# Altium schematic symbol library AndreiLib.SchLib: 25 symbols
Pins are listed as number, name and electrical type; pins without a type are passive.

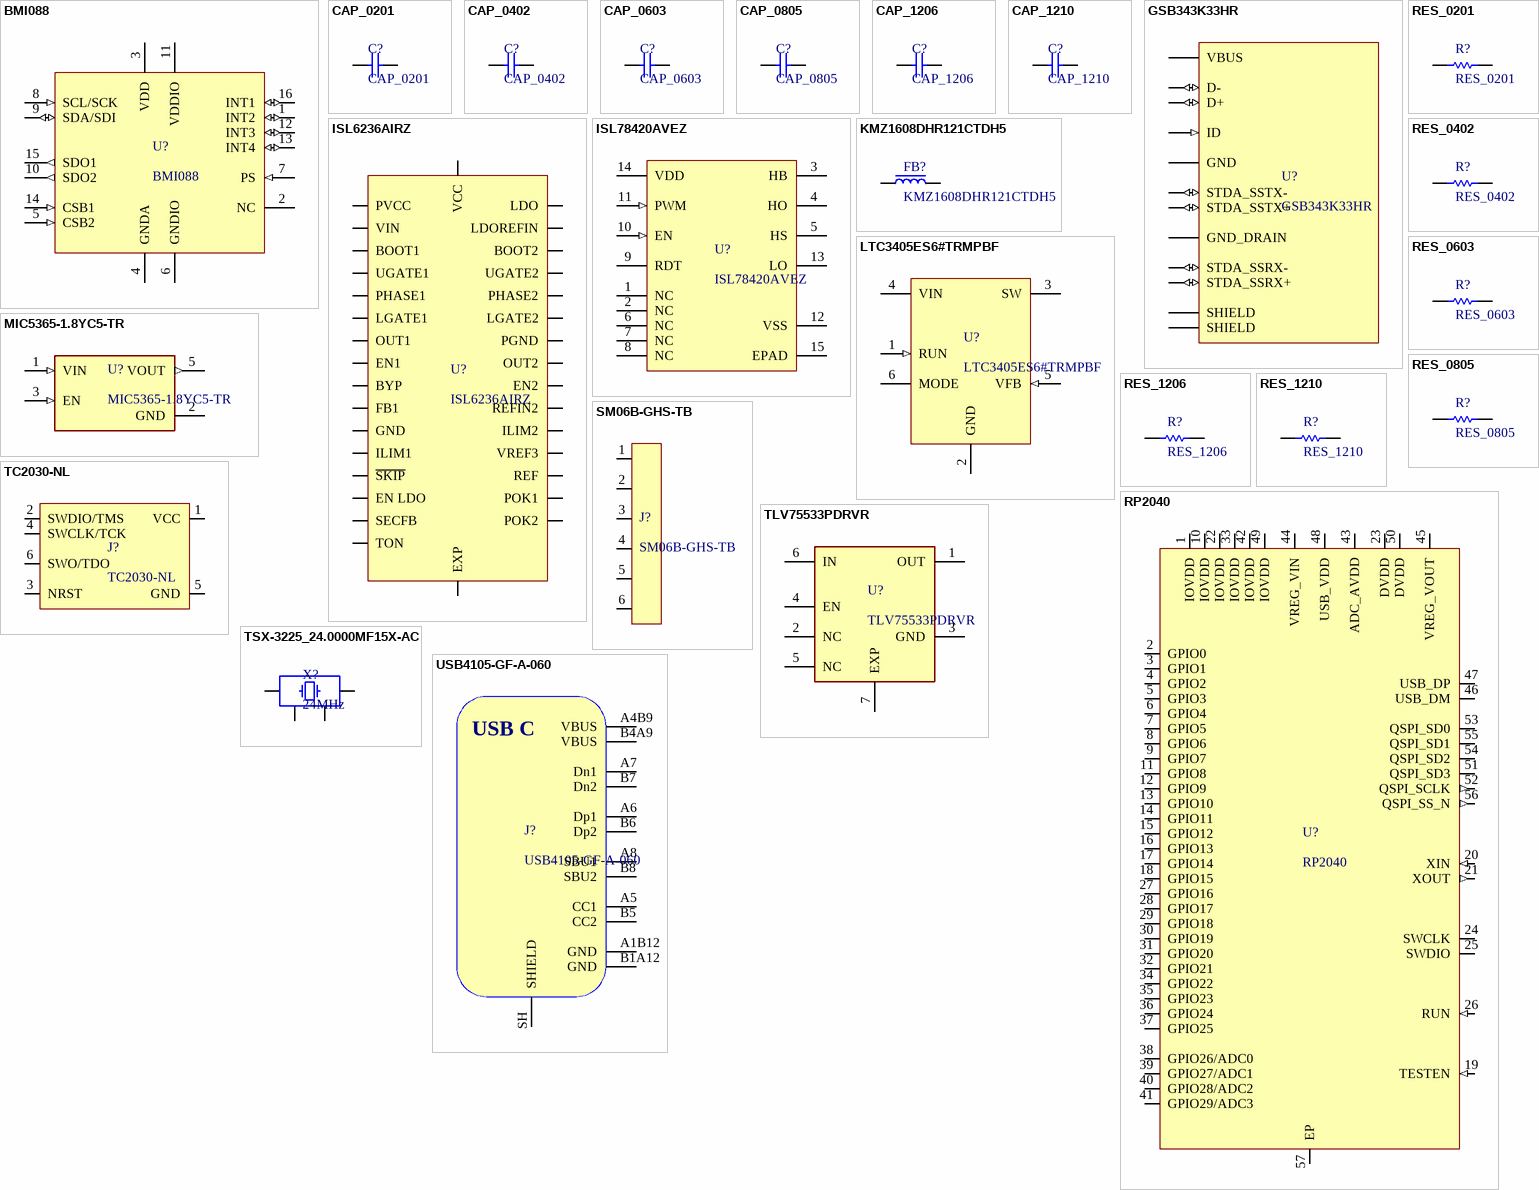
[diagram p0: symbols BMI088 to USB4105-GF-A-060]

## BMI088
designator U?
Inertial Measurement Unit IMU 6-Axis LGA; Manufacturer: Bosch; MAnufacturer Part Number: BMI088; LCSC: *
footprint BMI088
pins: 1 INT2 (io), 2 NC, 3 VDD (power), 4 GNDA (power), 5 CSB2 (in), 6 GNDIO (power), 7 PS (in), 8 SCL/SCK (in), 9 SDA/SDI (io), 10 SDO2 (out), 11 VDDIO (power), 12 INT3 (io), 13 INT4 (io), 14 CSB1 (in), 15 SDO1 (out), 16 INT1 (io)

## CAP_0201
designator C?
Capacitor SMD 0201 Generic; Manufacturer: *; Manufacturer Part Number: *; Tolerance: *; Package Size: *; LCSC Part Number: *
footprint CAP_0201 (Chip Capacitor, 2-Leads, Body 0.60x0.30mm, IPC Medium Density)
pins: 1, 2

## CAP_0402
designator C?
Capacitor SMD 0402 Generic; Manufacturer: *; Manufacturer Part Number: *; Tolerance: *; Package Size: *; LCSC Part Number: *
footprint CAP_0402 (Chip Capacitor, 2-Leads, Body 1.00x0.50mm, IPC Medium Density)
pins: 1, 2

## CAP_0603
designator C?
Capacitor SMD 0603 Generic; Manufacturer: *; Manufacturer Part Number: *; Tolerance: *; Package Size: *; LCSC Part Number: *
footprint CAP_0603 (Chip Capacitor, 2-Leads, Body 1.60x0.80mm, IPC Medium Density)
pins: 1, 2

## CAP_0805
designator C?
Capacitor SMD 0805 Generic; Manufacturer: *; Manufacturer Part Number: *; Tolerance: *; Package Size: *; LCSC Part Number: *
footprint CAP_0805 (Chip Capacitor, 2-Leads, Body 2.00x1.25mm, IPC Medium Density)
pins: 1, 2

## CAP_1206
designator C?
Capacitor SMD 1206 Generic; Manufacturer: *; Manufacturer Part Number: *; Tolerance: *; Package Size: *; LCSC Part Number: *
footprint CAP_1206 (Chip Capacitor, 2-Leads, Body 3.20x1.60mm, IPC Medium Density)
pins: 1, 2

## CAP_1210
designator C?
Capacitor SMD 1210 Generic; Manufacturer: *; Manufacturer Part Number: *; Tolerance: *; Package Size: *; LCSC Part Number: *
footprint CAP_1210 (Chip Capacitor, 2-Leads, Body 3.20x2.50mm, IPC Medium Density)
pins: 1, 2

## GSB343K33HR
designator U?
Micro USB 3.2, Type Micro B, Receptacle, Right Angle Surface Mount, 10 Pins; Manufacturer: *; Manufacturer Part Number: *; LCSC Part Number: *
pins: 1 VBUS (power), 2 D- (io), 3 D+ (io), 4 ID (in), 5 GND (power), 6 STDA_SSTX- (io), 7 STDA_SSTX+ (io), 8 GND_DRAIN (power), 9 STDA_SSRX- (io), 10 STDA_SSRX+ (io), 11 SHIELD, 12 SHIELD

## ISL6236AIRZ
designator U?
Soft Sw PWM Cntrlr 2-OUT Power Supply Controller 200KHz/300KHz/400KHz/500KHz 32-Pin QFN EP; Manufacturer: Renesas; Manufacturer Lifecycle Status: OBSOLETE; Efficiency: 97%; Frequency: 500kHz; Max Supply Voltage: 25V; Max Junction Temperature (Tj): 150°C; Max Output current: 3.3A; Min Input Voltage: 5.5V; Min Supply Voltage: 4.5V; Min Switching Frequency: 25kHz; Nominal Supply Voltage: 12V; Nominal Output Voltage: 1.05V; Number of Circuits: 1; Number of Outputs: 2; Output Current: 20A; Pitch: 500µm; Switching Frequency: 37kHz; Topology: Buck, Push-Pull; Supplier: RS; Supplier Part Number: 2627252; Manufacturer Part Number: ISL6236AIRZ; RoHS: Compliant; Category: Voltage Regulators - Switching; Stock: 44; Pricing: 1=55.55, 10=50.27, 25=47.72, 120=41.51, 300=39.42 (DKK); Case/Package: QFN; Country of Origin: Taiwan; Export Control Classification Number (ECCN) Code: EAR99; Part Family: ISL6236A; Height: 900µm; Height - Seated (Max): 1mm; Harmonized Tariff Schedule (HTS) Code: 8542.39.00.60; Introduction Date: 2017-11-10; Lead Free: Lead Free; Length: 5mm; Lifecycle Status: Obsolete; LTB Date: 2025-09-04; LTD Date: 2026-03-04; Max Operating Temperature: 100°C; Max Switching Frequency: 500kHz; Min Operating Temperature: -40°C; MSL: 3; Mounting Technology: Surface Mount; Pins: 32; Number of Terminals: 32; Output Voltage: 5.5V; Radiation Hardening: No; REACH SVHC: Unaffected; Temperature Grade: Industrial; Terminal Pitch: 500µm; Width: 5mm; ComponentLink1URL: https://datasheet.octopart.com:443/ISL6236AIRZ-Renesas-datasheet-149187364.pdf?src-supplier=Integrated+Device+Technology; ComponentLink1Description: https://datasheet.octopart.com:443/ISL6236AIRZ-Renesas-datasheet-149187364.pdf?src-supplier=Integrated+Device+Technology; ComponentLink2URL: https://datasheet.octopart.com:443/ISL6236AIRZ-Renesas-datasheet-179182849.pdf?src-supplier=Integrated+Device+Technology; ComponentLink2Description: https://datasheet.octopart.com:443/ISL6236AIRZ-Renesas-datasheet-179182849.pdf?src-supplier=Integrated+Device+Technology; ComponentLink3URL: https://datasheet.octopart.com:443/ISL6236AIRZ-Renesas-datasheet-14388266.pdf?src-supplier=IHS; ComponentLink3Description: https://datasheet.octopart.com:443/ISL6236AIRZ-Renesas-datasheet-14388266.pdf?src-supplier=IHS; ComponentLink4URL: https://datasheet.octopart.com:443/ISL6236AIRZ-Renesas-datasheet-138160199.pdf?src-supplier=Future+Electronics; ComponentLink4Description: https://datasheet.octopart.com:443/ISL6236AIRZ-Renesas-datasheet-138160199.pdf?src-supplier=Future+Electronics; ComponentLink5URL: https://datasheet.octopart.com:443/ISL6236AIRZ-Intersil-datasheet-158443858.pdf?src-supplier=Augswan; ComponentLink5Description: https://datasheet.octopart.com:443/ISL6236AIRZ-Intersil-datasheet-158443858.pdf?src-supplier=Augswan; ComponentLink6URL: http://sigma.octopart.com:80/reach_statement/Renesas-company-45.pdf?src-supplier=Compliance+Statements; ComponentLink6Description: http://sigma.octopart.com:80/reach_statement/Renesas-company-45.pdf?src-supplier=Compliance+Statements; ComponentLink7URL: http://sigma.octopart.com:80/conflict_mineral_statement/Renesas-company-44.pdf?src-supplier=Compliance+Statements; ComponentLink7Description: http://sigma.octopart.com:80/conflict_mineral_statement/Renesas-company-44.pdf?src-supplier=Compliance+Statements; LCSC Part Number: *
footprint L32.5x5B
pins: 1 REF, 2 TON, 3 VCC, 4 EN LDO, 5 VREF3, 6 VIN, 7 LDO, 8 LDOREFIN, 9 BYP, 10 OUT1, 11 FB1, 12 ILIM1, 13 POK1, 14 EN1, 15 UGATE1, 16 PHASE1, 17 BOOT1, 18 LGATE1, 19 PVCC, 20 SECFB, 21 GND, 22 PGND, 23 LGATE2, 24 BOOT2, 25 PHASE2, 26 UGATE2, 27 EN2, 28 POK2, 29 ~{SKIP}, 30 OUT2, 31 ILIM2, 32 REFIN2, 33 EXP

## ISL78420AVEZ
designator U?
Renesas Electronics 14Pin gate driver module, 100VPower, HTSSOP 16encapsulation; Manufacturer Lifecycle Status: ACTIVE; Channel Type: Synchronous; Fall Time: 10ns; Max Output current: 2A; Max Power Dissipation: 3.5W; Max Supply Current: 4mA; Max Supply Voltage: 14V; Min Supply Voltage: 8V; Nominal Supply Voltage (DC): 12V; Number of Channels: 1; Number of Drivers: 2; Output Type: Voltage; Pitch: 700µm; Propagation Delay: 60ns; Supplier: Farnell; Supplier Part Number: ISL78420AVEZ; Manufacturer: Renesas; Manufacturer Part Number: ISL78420AVEZ; RoHS: Compliant; Category: Gate Drivers; Stock: 41; Pricing: 1=1, 10=26.15, 25=24.11, 50=23.06, 100=21.97, 250=20.92, 500=20.03 (EUR); Country of Origin: Malaysia; Export Control Classification Number (ECCN) Code: EAR99; Part Family: ISL78420; Height: 0m; Height - Seated (Max): 1.2mm; Harmonized Tariff Schedule (HTS) Code: 8540000000; Introduction Date: 2014-11-06; Length: 5mm; Lifecycle Status: Production; Max Operating Temperature: 125°C; Min Operating Temperature: -40°C; MSL: 3; Mounting Technology: Surface Mount; Number of Circuits: 1; Number of Outputs: 2; Pins: 14; Number of Terminals: 14; Radiation Hardening: No; Ratings: AEC-Q100; REACH SVHC: Unaffected; Terminal Pitch: 650µm; Width: 4.4mm; ComponentLink1URL: https://datasheet.octopart.com:443/ISL78420AVEZ-Renesas-datasheet-117116799.pdf?src-supplier=IHS; ComponentLink1Description: https://datasheet.octopart.com:443/ISL78420AVEZ-Renesas-datasheet-117116799.pdf?src-supplier=IHS; ComponentLink2URL: https://datasheet.octopart.com:443/ISL78420AVEZ-Renesas-datasheet-41199385.pdf?src-supplier=IHS; ComponentLink2Description: https://datasheet.octopart.com:443/ISL78420AVEZ-Renesas-datasheet-41199385.pdf?src-supplier=IHS; ComponentLink3URL: https://datasheet.octopart.com:443/ISL78420AVEZ-Renesas-datasheet-179183120.pdf?src-supplier=Integrated+Device+Technology; ComponentLink3Description: https://datasheet.octopart.com:443/ISL78420AVEZ-Renesas-datasheet-179183120.pdf?src-supplier=Integrated+Device+Technology; ComponentLink4URL: https://datasheet.octopart.com:443/ISL78420AVEZ-Renesas-datasheet-149187688.pdf?src-supplier=Integrated+Device+Technology; ComponentLink4Description: https://datasheet.octopart.com:443/ISL78420AVEZ-Renesas-datasheet-149187688.pdf?src-supplier=Integrated+Device+Technology; ComponentLink5URL: https://datasheet.octopart.com:443/ISL78420AVEZ-Intersil-datasheet-37096373.pdf?src-supplier=Newark; ComponentLink5Description: https://datasheet.octopart.com:443/ISL78420AVEZ-Intersil-datasheet-37096373.pdf?src-supplier=Newark; ComponentLink6URL: https://datasheet.octopart.com:443/ISL78420AVEZ-Intersil-datasheet-32868520.pdf?src-supplier=Intersil; ComponentLink6Description: https://datasheet.octopart.com:443/ISL78420AVEZ-Intersil-datasheet-32868520.pdf?src-supplier=Intersil; ComponentLink7URL: http://sigma.octopart.com:80/reach_statement/Renesas-company-45.pdf?src-supplier=Compliance+Statements; ComponentLink7Description: http://sigma.octopart.com:80/reach_statement/Renesas-company-45.pdf?src-supplier=Compliance+Statements; ComponentLink8URL: http://sigma.octopart.com:80/conflict_mineral_statement/Renesas-company-44.pdf?src-supplier=Compliance+Statements; ComponentLink8Description: http://sigma.octopart.com:80/conflict_mineral_statement/Renesas-company-44.pdf?src-supplier=Compliance+Statements; LCSC Part Number: *
footprint ISL78420AVEZ
pins: 1 NC, 2 NC, 3 HB (power), 4 HO, 5 HS, 6 NC, 7 NC, 8 NC, 9 RDT, 10 EN (in), 11 PWM (in), 12 VSS (power), 13 LO, 14 VDD (power), 15 EPAD

## KMZ1608DHR121CTDH5
designator FB?
Ferrite Beads 120MHz 0.3Ohm 25% 1608 AEC-Q200; Manufacturer: *; Manufacturer Part Number: *; LCSC Part Number: *
footprint KMZ1608DHR121CTDH5
pins: 1, 2

## LTC3405ES6#TRMPBF
designator U?
1.5MHz, 300mA Synchronous Step-Down Regulator in ThinSOT
footprint SOT-23-6 (SOT23, 6-Leads, Body 2.90x2.80mm, Pitch 0.95mm, IPC Medium Density)
pins: 1 RUN (in), 2 GND (power), 3 SW (power), 4 VIN (power), 5 VFB (in), 6 MODE

## MIC5365-1.8YC5-TR
designator U?
Linear Voltage Regulator IC Positive Fixed 1 Output 150mA SC-70-5; MF: Microchip; SnapEDA_Link: https://www.snapeda.com/parts/MIC5365-1.8YC5-TR/Microchip/view-part/?ref=snap; Package: SC-70-5 Microchip; Value: *; MP: MIC5365-1.8YC5-TR; Check_prices: https://www.snapeda.com/parts/MIC5365-1.8YC5-TR/Microchip/view-part/?ref=eda
footprint MIC5365-1.8YC5-TR
pins: 1 VIN (in), 2 GND (power), 3 EN (in), 5 VOUT (out)

## RES_0201
designator R?
Resistor SMD 0201 Generic; Manufacturer: *; Manufacturer Part Number: *; Tolerance: *; Package Size: *; LCSC Part Number: *
footprint RES_0201 (Chip Resistor, 2-Leads, Body 0.60x0.30mm, IPC Medium Density)
pins: 1, 2

## RES_0402
designator R?
Resistor SMD 0402 Generic; Manufacturer: *; Manufacturer Part Number: *; Tolerance: *; Package Size: *; LCSC Part Number: *
footprint RES_0402 (Chip Resistor, 2-Leads, Body 1.00x0.50mm, IPC Medium Density)
pins: 1, 2

## RES_0603
designator R?
Resistor SMD 0603 Generic; Manufacturer: *; Manufacturer Part Number: *; Tolerance: *; Package Size: *; LCSC Part Number: *
footprint RES_0603
pins: 1, 2

## RES_0805
designator R?
Resistor SMD 0805 Generic; Manufacturer: *; Manufacturer Part Number: *; Tolerance: *; Package Size: *; LCSC Part Number: *
footprint RES_0805 (Chip Resistor, 2-Leads, Body 2.00x1.25mm, IPC Medium Density)
pins: 1, 2

## RES_1206
designator R?
Resistor SMD 1206 Generic; Manufacturer: *; Manufacturer Part Number: *; Tolerance: *; Package Size: *; LCSC Part Number: *
footprint RES_1206 (Chip Resistor, 2-Leads, Body 3.10x1.60mm, IPC Medium Density)
pins: 1, 2

## RES_1210
designator R?
Resistor SMD 1210 Generic; Manufacturer: *; Manufacturer Part Number: *; Tolerance: *; Package Size: *; LCSC Part Number: *
footprint RES_1210 (Chip Resistor, 2-Leads, Body 3.10x2.60mm, IPC Medium Density)
pins: 1, 2

## RP2040
designator U?
Raspberry Pi RP2040 MCU
footprint QFN-56-EP
pins: 1 IOVDD (power), 2 GPIO0 (io), 3 GPIO1 (io), 4 GPIO2 (io), 5 GPIO3 (io), 6 GPIO4 (io), 7 GPIO5 (io), 8 GPIO6 (io), 9 GPIO7 (io), 10 IOVDD (power), 11 GPIO8 (io), 12 GPIO9 (io), 13 GPIO10 (io), 14 GPIO11 (io), 15 GPIO12 (io), 16 GPIO13 (io), 17 GPIO14 (io), 18 GPIO15 (io), 19 TESTEN (in), 20 XIN (in), 21 XOUT (out), 22 IOVDD (power), 23 DVDD (power), 24 SWCLK (io), 25 SWDIO (io), 26 RUN (in), 27 GPIO16 (io), 28 GPIO17 (io), 29 GPIO18 (io), 30 GPIO19 (io), 31 GPIO20 (io), 32 GPIO21 (io), 33 IOVDD (power), 34 GPIO22 (io), 35 GPIO23 (io), 36 GPIO24 (io), 37 GPIO25 (io), 38 GPIO26/ADC0 (io), 39 GPIO27/ADC1 (io), 40 GPIO28/ADC2 (io), 41 GPIO29/ADC3 (io), 42 IOVDD (power), 43 ADC_AVDD (power), 44 VREG_VIN (power), 45 VREG_VOUT (power), 46 USB_DM (io), 47 USB_DP (io), 48 USB_VDD (power), 49 IOVDD (power), 50 DVDD (power), 51 QSPI_SD3 (io), 52 QSPI_SCLK (out), 53 QSPI_SD0 (io), 54 QSPI_SD2 (io), 55 QSPI_SD1 (io), 56 QSPI_SS_N (out), 57 EP (power)

## SM06B-GHS-TB
designator J?
Header Connector 6 Position 1.25MM Pitch SMD Horizontal JST GH
pins: 1, 2, 3, 4, 5, 6

## TC2030-NL
designator J?
Tag-Connect No-Solder SWD Debug Connector (No Legs) DO NOT PLACE; Manufacturer Part Number: TC2030-NL-FP; Manufacturer: Tag-Connect; LCSC: *
footprint TC2030-NL-FP
pins: 1 VCC, 2 SWDIO/TMS, 3 NRST, 4 SWCLK/TCK, 5 GND, 6 SWO/TDO

## TLV75533PDRVR
designator U?
500mA high-PSRR low-IQ low-dropout voltage regulator with enable 6-WSON -40 to 125; Manufacturer: Texas Instruments; Manufacturer Lifecycle Status: ACTIVE; Accuracy: 1.5%; Dropout Voltage: 250mV; Max Junction Temperature (Tj): 125°C; Max Supply Voltage: 5.5V; Min Supply Voltage: 3.55V; Nominal Supply Current: 25µA; Number of Channels: 1; Output Voltage: 3.3V; Supplier: DigiKey; Supplier Part Number: 296-51807-6-ND; Manufacturer Part Number: TLV75533PDRVR; RoHS: Compliant; Category: LDO Voltage Regulators; Stock: 5358; Pricing: 1=0.45, 10=0.311, 25=0.2772, 100=0.24, 250=0.22232, 500=0.21166, 1000=0.20288 (USD); Height: 800µm; Length: 2mm; Lifecycle Status: Production; Max Operating Temperature: 125°C; Min Operating Temperature: -40°C; Number of Outputs: 1; Pins: 6; Output Current: 500mA; Schedule B: 8542390000; Thickness: 750µm; Width: 2mm; ComponentLink1URL: https://octopart.com:443/opatz8j6/c1?t=jz4KQYd-X30Q9oOq83RN8Q7LJxgnjgc-4qjjpnbq5ibPyNQ9C1qmgU9l-Mq4lcrjrxNSMc1fBezVCBvvAiMb2CiEwv4XU2kB3ULQci-AKl7rOna3sWz9khra6j3WMNF6umiBxhVnqs4fyYOWhNE2PFYe70JvyT66uIYe3PcBjJPV9rj2Op8s1nt1envjIjZVUY3LrhuEoL_oMCW_bmLoi1tQcpU6eGEV6lKc3ncBfJmEddXZsDRyU__fld6n-joR3AORBvJ_Vc3OVQhCrkfV5BDSB_Me-qjpyqejgDWvRq9frsyj1H2Z_N5iwNIFVTUaM6S0AsYGC3S5REzTpAfo67I7hxePwPhy6LENuZ1lk9DMUkgUFbrXIbVKEpYMLRYkCMjcSg&src-supplier=Texas+Instruments; ComponentLink1Description: https://octopart.com:443/opatz8j6/c1?t=jz4KQYd-X30Q9oOq83RN8Q7LJxgnjgc-4qjjpnbq5ibPyNQ9C1qmgU9l-Mq4lcrjrxNSMc1fBezVCBvvAiMb2CiEwv4XU2kB3ULQci-AKl7rOna3sWz9khra6j3WMNF6umiBxhVnqs4fyYOWhNE2PFYe70JvyT66uIYe3PcBjJPV9rj2Op8s1nt1envjIjZVUY3LrhuEoL_oMCW_bmLoi1tQcpU6eGEV6lKc3ncBfJmEddXZsDRyU__fld6n-joR3AORBvJ_Vc3OVQhCrkfV5BDSB_Me-qjpyqejgDWvRq9frsyj1H2Z_N5iwNIFVTUaM6S0AsYGC3S5REzTpAfo67I7hxePwPhy6LENuZ1lk9DMUkgUFbrXIbVKEpYMLRYkCMjcSg&src-supplier=Texas+Instruments; ComponentLink2URL: https://sigma.octopart.com:443/101810328/technical_drawing/Texas-Instruments-TLV75533PDRVR.pdf?src-supplier=Texas+Instruments; ComponentLink2Description: https://sigma.octopart.com:443/101810328/technical_drawing/Texas-Instruments-TLV75533PDRVR.pdf?src-supplier=Texas+Instruments; ComponentLink3URL: https://datasheet.octopart.com:443/TLV75533PDRVR-Texas-Instruments-datasheet-148775085.pdf?src-supplier=Upverter; ComponentLink3Description: https://datasheet.octopart.com:443/TLV75533PDRVR-Texas-Instruments-datasheet-148775085.pdf?src-supplier=Upverter; ComponentLink4URL: https://datasheet.octopart.com:443/TLV75533PDRVR-Texas-Instruments-datasheet-150455022.pdf?src-supplier=Augswan; ComponentLink4Description: https://datasheet.octopart.com:443/TLV75533PDRVR-Texas-Instruments-datasheet-150455022.pdf?src-supplier=Augswan; ComponentLink5URL: https://datasheet.octopart.com:443/TLV75533PDRVR-Texas-Instruments-datasheet-165804640.pdf?src-supplier=LCSC; ComponentLink5Description: https://datasheet.octopart.com:443/TLV75533PDRVR-Texas-Instruments-datasheet-165804640.pdf?src-supplier=LCSC; ComponentLink6URL: http://sigma.octopart.com:80/reach_statement/Texas-Instruments-company-64.pdf?src-supplier=Compliance+Statements; ComponentLink6Description: http://sigma.octopart.com:80/reach_statement/Texas-Instruments-company-64.pdf?src-supplier=Compliance+Statements; ComponentLink7URL: http://sigma.octopart.com:80/conflict_mineral_statement/Texas-Instruments-company-63.pdf?src-supplier=Compliance+Statements; ComponentLink7Description: http://sigma.octopart.com:80/conflict_mineral_statement/Texas-Instruments-company-63.pdf?src-supplier=Compliance+Statements; LCSC Part Number: *
footprint TLV75533PDRVR
pins: 1 OUT, 2 NC, 3 GND (power), 4 EN, 5 NC, 6 IN, 7 EXP (power)

## TSX-3225_24.0000MF15X-AC
designator X?, comment 24MHz
Crystal SMD 24MHz 10PPM 7pF 3225; Manufacturer: Epson; Manufacturer Part Number: TSX-3225_24.0000MF15X-AC; LCSC: *
footprint TSX-3225_24.0000MF15X-AC
pins: 1, 2, 3, 4

## USB4105-GF-A-060
designator J?
USB Connector Type C SMT 12 Pin; Manufacturer: *; Manufacturer Part Number: *; LCSC Part Number: *
pins: A1B12 GND, A4B9 VBUS, A5 CC1, A6 Dp1, A7 Dn1, A8 SBU1, B1A12 GND, B4A9 VBUS, B5 CC2, B6 Dp2, B7 Dn2, B8 SBU2, SH SHIELD
text: USB C